# Altium footprint library ECE Lib 22.PcbLib: 47 footprints (part 1 of 3)
Each footprint in its own frame and in the unit in brackets; x right, y up, seen from the top. Pads: shape width x height; smd on the part's side, far side on the other; paste and mask are expansions set on the pad; w line width, h text height; cw(c..) or ccw(c..) is an arc to the next point about the centre after c.
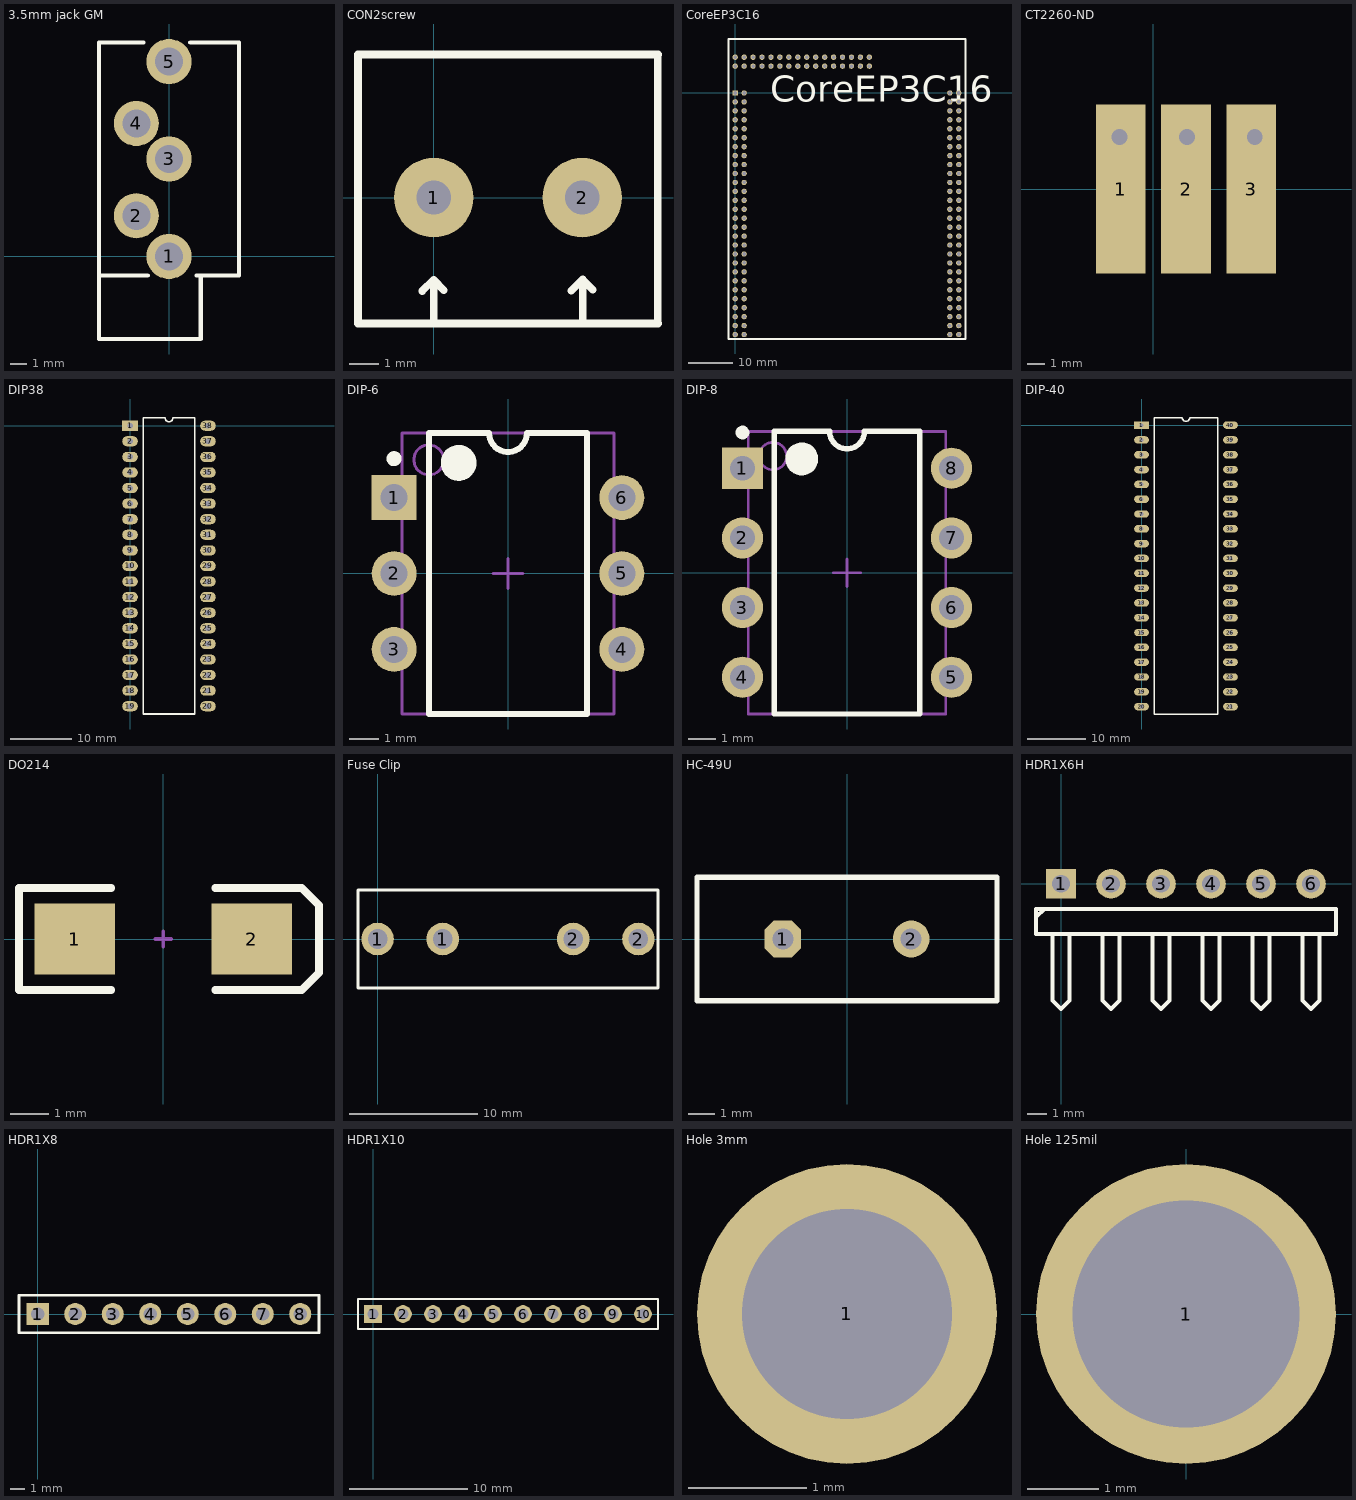
[diagram p0: the footprints below, top view; thin cyan lines are the x and y axes]

## 3.5mm jack GM [mil]
pads (5):
  round 106.5 hole 66.5: 1(0,0) 2(-77,96) 3(0,230) 4(-77,314) 5(0,460)
Top Overlay:
  lines w10: -60,505 -165,505 -165,-45 ; -50,-45 -165,-45 ; 50,505 165,505 165,-45 65,-45 ; 75,-45 75,-195 -165,-195 -165,-45

## CON2screw [mil]
pads (2):
  round 105 hole 45: 1(0,0) 2(196,0)
Top Overlay:
  lines w10: -100,-166.14 296.06,-166.14 ; -100,-166 -100,189 296.06,188.98 ; 0,-166.14 0,-108.27 ; 13.39,-122.05 0,-108.66 0,-108.27 ; 196.46,-165.75 196.46,-107.87 ; 209.84,-121.65 196.46,-108.27 196.46,-107.87 ; 296,-166 296,189 ; 0,-108.27 -14.96,-123.23 0,-108.27 ; 196.46,-107.87 181.5,-122.83 196.46,-107.87

## CoreEP3C16 [mm]
pads (144):
  rect 1.2x1.2 hole 0.8: 1(0,0)
  round 1.2 hole 0.8: 2(2,0) 3(0,-2) 4(2,-2) 5(0,-4) 6(2,-4) 7(0,-6) 8(2,-6) 9(0,-8) 10(2,-8) 11(0,-10) 12(2,-10) 13(0,-12) 14(2,-12) 15(0,-14) 16(2,-14) 17(0,-16) 18(2,-16) 19(0,-18) 20(2,-18) 21(0,-20) 22(2,-20) 23(0,-22) 24(2,-22) 25(0,-24) 26(2,-24) 27(0,-26) 28(2,-26) 29(0,-28) 30(2,-28) 31(0,-30) 32(2,-30) 33(0,-32) 34(2,-32) 35(0,-34) 36(2,-34) 37(0,-36) 38(2,-36) 39(0,-38) 40(2,-38) 41(0,-40) 42(2,-40) 43(0,-42) 44(2,-42) 45(0,-44) 46(2,-44) 47(0,-46) 48(2,-46) 49(0,-48) 50(2,-48) 51(0,-50) 52(2,-50) 53(0,-52) 54(2,-52) 55(0,-54) 56(2,-54) 57(0,6) 58(0,8) 59(2,6) 60(2,8) 61(4,6) 62(4,8) 63(6,6) 64(6,8) 65(8,6) 66(8,8) 67(10,6) 68(10,8) 69(12,6) 70(12,8) 71(14,6) 72(14,8) 73(16,6) 74(16,8) 75(18,6) 76(18,8) 77(20,6) 78(20,8) 79(22,6) 80(22,8) 81(24,6) 82(24,8) 83(26,6) 84(26,8) 85(28,6) 86(28,8) 87(30,6) 88(30,8) 89(48,0) 90(50,0) 91(48,-2) 92(50,-2) 93(48,-4) 94(50,-4) 95(48,-6) 96(50,-6) 97(48,-8) 98(50,-8) 99(48,-10) 100(50,-10) 101(48,-12) 102(50,-12) 103(48,-14) 104(50,-14) 105(48,-16) 106(50,-16) 107(48,-18) 108(50,-18) 109(48,-20) 110(50,-20) 111(48,-22) 112(50,-22) 113(48,-24) 114(50,-24) 115(48,-26) 116(50,-26) 117(48,-28) 118(50,-28) 119(48,-30) 120(50,-30) 121(48,-32) 122(50,-32) 123(48,-34) 124(50,-34) 125(48,-36) 126(50,-36) 127(48,-38) 128(50,-38) 129(48,-40) 130(50,-40) 131(48,-42) 132(50,-42) 133(48,-44) 134(50,-44) 135(48,-46) 136(50,-46) 137(48,-48) 138(50,-48) 139(48,-50) 140(50,-50) 141(48,-52) 142(50,-52) 143(48,-54) 144(50,-54)
Top Overlay:
  lines w0.508: -1.5,-55 51.5,-55 51.5,12.065 -1.5,12.065 -1.5,-54.991
  text "CoreEP3C16" at 7.874,-3.81 h10

## CT2260-ND [mil]
pads (3):
  rect 110x375 smd: 1(-72.5,0) 2(72.5,0) 3(217.5,0)
via 225,115 diameter 65 hole 35
via 75,115 diameter 65 hole 35
via -75,115 diameter 65 hole 35

## DIP38 [mil]
pads (38):
  rect 100x65 hole 35: 1(0,0)
  oval 100x65 hole 35: 2(0,-100) 3(0,-200) 4(0,-300) 5(0,-400) 6(0,-500) 7(0,-600) 8(0,-700) 9(0,-800) 10(0,-900) 11(0,-1000) 12(0,-1100) 13(0,-1200) 14(0,-1300) 15(0,-1400) 16(0,-1500) 17(0,-1600) 18(0,-1700) 19(0,-1800) 20(500,-1800) 21(500,-1700) 22(500,-1600) 23(500,-1500) 24(500,-1400) 25(500,-1300) 26(500,-1200) 27(500,-1100) 28(500,-1000) 29(500,-900) 30(500,-800) 31(500,-700) 32(500,-600) 33(500,-500) 34(500,-400) 35(500,-300) 36(500,-200) 37(500,-100) 38(500,0)
Top Overlay:
  lines w10: 85,-1850 415,-1850 415,50 275,50 cw(c250,50) 225,50 85,50 85,-1850

## DIP-6 [mm]
pads (6):
  rect 1.5x1.5 hole 0.9: 1(-3.81,2.54)
  round 1.5 hole 0.9: 2(-3.81,0) 3(-3.81,-2.54) 4(3.81,-2.54) 5(3.81,0) 6(3.81,2.54)
Top Overlay:
  circle w0.6: c-1.65,3.7 r0.3
  circle w0.25: c-3.81,3.84 r0.125
  lines w0.2: -2.65,-4.7 2.65,-4.7 2.65,4.7 0.635,4.7 cw(c0,4.7) -0.635,4.7 -2.65,4.7 -2.65,-4.7
Mechanical 13:
  circle w0.1: c-2.65,3.8 r0.5
  lines w0.1: -3.55,-4.7 3.55,-4.7 3.55,4.7 -3.55,4.7 -3.55,-4.7
Mechanical 15:
  lines w0.1: -0.5,0 0.5,0 ; 0,-0.5 0,0.5
3D body: height 5.46, standoff 0, extent -3.55,-4.7 3.55,4.7

## DIP-8 [mm]
pads (8):
  rect 1.5x1.5 hole 0.9: 1(-3.81,3.81)
  round 1.5 hole 0.9: 2(-3.81,1.27) 3(-3.81,-1.27) 4(-3.81,-3.81) 5(3.81,-3.81) 6(3.81,-1.27) 7(3.81,1.27) 8(3.81,3.81)
Top Overlay:
  circle w0.25: c-3.81,5.11 r0.125
  circle w0.6: c-1.65,4.15 r0.3
  lines w0.2: -2.65,-5.15 -2.65,5.15 -0.635,5.15 ccw(c0,5.15) 0.635,5.15 2.65,5.15 2.65,-5.15 -2.65,-5.15
Mechanical 13:
  circle w0.1: c-2.7,4.25 r0.5
  lines w0.1: -3.6,-5.15 -3.6,5.15 3.6,5.15 3.6,-5.15 -3.6,-5.15
Mechanical 15:
  lines w0.1: -0.5,0 0.5,0 ; 0,-0.5 0,0.5
3D body: height 5.08, standoff 0, extent -3.6,-5.15 3.6,5.15

## DIP-40 [mil]
pads (40):
  rect 100x50 hole 25: 1(0,0)
  oval 100x50 hole 25: 2(0,-100) 3(0,-200) 4(0,-300) 5(0,-400) 6(0,-500) 7(0,-600) 8(0,-700) 9(0,-800) 10(0,-900) 11(0,-1000) 12(0,-1100) 13(0,-1200) 14(0,-1300) 15(0,-1400) 16(0,-1500) 17(0,-1600) 18(0,-1700) 19(0,-1800) 20(0,-1900) 21(600,-1900) 22(600,-1800) 23(600,-1700) 24(600,-1600) 25(600,-1500) 26(600,-1400) 27(600,-1300) 28(600,-1200) 29(600,-1100) 30(600,-1000) 31(600,-900) 32(600,-800) 33(600,-700) 34(600,-600) 35(600,-500) 36(600,-400) 37(600,-300) 38(600,-200) 39(600,-100) 40(600,0)
Top Overlay:
  lines w10: 85,-1950 85,50 275,50 ccw(c300,50) 325,50 515,50 515,-1950 85,-1950

## DO214 [mm]
pads (2):
  rect 2.1x1.85 smd: 1(-2.3,0) 2(2.3,0)
Top Overlay:
  lines w0.2: -1.35,-1.325 -3.75,-1.325 -3.75,1.325 -1.35,1.325 ; 1.35,-1.325 3.6,-1.325 4.05,-0.875 4.05,0.875 3.6,1.325 1.35,1.325
Mechanical 1:
  lines w0.1: -0.2,0 0.2,0 ; 0,-0.2 0,0.2

## Fuse Clip [mil]
pads (4):
  round 100 hole 60: 1(0,0) 1(200,0) 2(600,0) 2(800,0)
Top Overlay:
  lines w10: -60,-150 -60,150 805,150 860,150 860,-150 -60,-150

## HC-49U [mm]
pads (2):
  oct 1.4x1.4 hole 0.8: 1(-2.44,0)
  round 1.4 hole 0.8: 2(2.44,0)
Top Overlay:
  lines w0.2: -5.7,-2.35 -5.7,2.35 5.7,2.35 5.7,-2.35 -5.7,-2.35

## HDR1X6H [mm]
pads (6):
  rect 1.5x1.5 hole 0.9: 1(0,0)
  round 1.5 hole 0.9: 2(2.54,0) 3(5.08,0) 4(7.62,0) 5(10.16,0) 6(12.7,0)
Top Overlay:
  lines w0.2: -1.27,-1.693 -0.847,-1.27 ; -0.423,-2.54 -0.423,-5.927 0,-6.35 0.423,-5.927 0.423,-2.54 ; 2.117,-2.54 2.117,-5.927 2.54,-6.35 2.963,-5.927 2.963,-2.54 ; 4.657,-2.54 4.657,-5.927 5.08,-6.35 5.503,-5.927 5.503,-2.54 ; 7.197,-2.54 7.197,-5.927 7.62,-6.35 8.043,-5.927 8.043,-2.54 ; 9.737,-2.54 9.737,-5.927 10.16,-6.35 10.583,-5.927 10.583,-2.54 ; 12.277,-2.54 12.277,-5.927 12.7,-6.35 13.123,-5.927 13.123,-2.54 ; -1.27,-2.54 13.97,-2.54 13.97,-1.27 -1.27,-1.27 -1.27,-2.54

## HDR1X8 [mm]
pads (8):
  rect 1.5x1.5 hole 0.9: 1(0,0)
  round 1.5 hole 0.9: 2(2.54,0) 3(5.08,0) 4(7.62,0) 5(10.16,0) 6(12.7,0) 7(15.24,0) 8(17.78,0)
Top Overlay:
  lines w0.2: -1.27,-1.27 19.05,-1.27 19.05,1.27 -1.27,1.27 -1.27,-1.27

## HDR1X10 [mm]
pads (10):
  rect 1.5x1.5 hole 0.9: 1(0,0)
  round 1.5 hole 0.9: 2(2.54,0) 3(5.08,0) 4(7.62,0) 5(10.16,0) 6(12.7,0) 7(15.24,0) 8(17.78,0) 9(20.32,0) 10(22.86,0)
Top Overlay:
  lines w0.2: -1.27,-1.27 -1.27,1.27 0.635,1.27 24.13,1.27 24.13,-1.27 -1.27,-1.27

## Hole 3mm [mil]
pads (1):
  round 100 hole 70: 1(-390,175)

## Hole 125mil [mil]
pads (1):
  round 165 hole 125: 1(0,0)